# Altium footprint library QFN.PcbLib: 1 footprints
Each footprint in its own frame and in the unit in brackets; x right, y up, seen from the top. Pads: shape width x height; smd on the part's side, far side on the other; paste and mask are expansions set on the pad; w line width, h text height; cw(c..) or ccw(c..) is an arc to the next point about the centre after c.
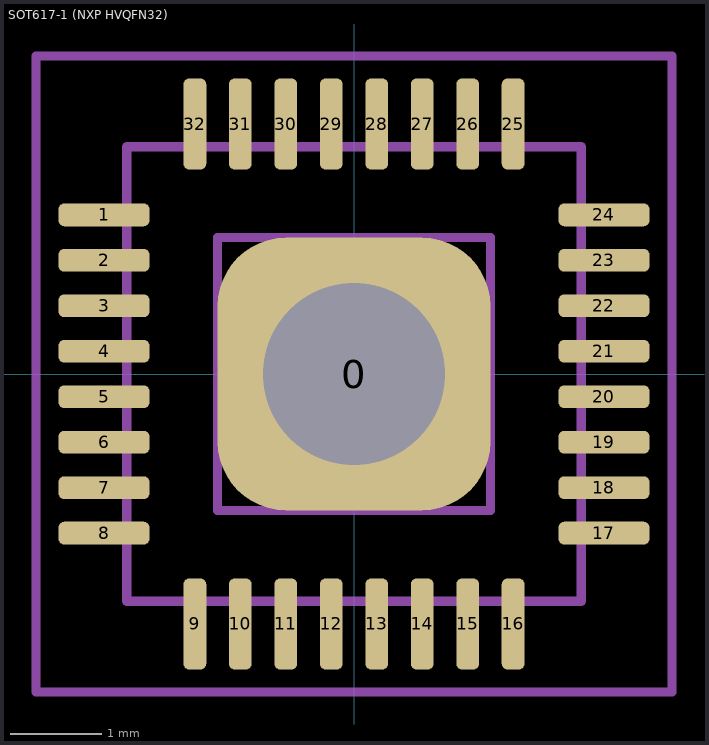
[diagram p0: the footprint, top view; thin cyan lines are the x and y axes]

## SOT617-1 (NXP HVQFN32) [mm] "plastic thermal enhanced very thin quad flat package; no leads;  32 terminals; body 5 x 5 x 0.85 mm"
pads (33):
  rrect50% 3x3 hole 2: 0(0,0)
  rrect50% 1x0.25 smd: 1(-2.75,1.75) 2(-2.75,1.25) 3(-2.75,0.75) 4(-2.75,0.25) 5(-2.75,-0.25) 6(-2.75,-0.75) 7(-2.75,-1.25) 8(-2.75,-1.75) 17(2.75,-1.75) 18(2.75,-1.25) 19(2.75,-0.75) 20(2.75,-0.25) 21(2.75,0.25) 22(2.75,0.75) 23(2.75,1.25) 24(2.75,1.75)
  rrect50% 0.25x1 smd: 9(-1.75,-2.75) 10(-1.25,-2.75) 11(-0.75,-2.75) 12(-0.25,-2.75) 13(0.25,-2.75) 14(0.75,-2.75) 15(1.25,-2.75) 16(1.75,-2.75) 25(1.75,2.75) 26(1.25,2.75) 27(0.75,2.75) 28(0.25,2.75) 29(-0.25,2.75) 30(-0.75,2.75) 31(-1.25,2.75) 32(-1.75,2.75)
Mechanical 13:
  lines w0.1: -2.5,-2.5 2.5,-2.5 2.5,2.5 -2.5,2.5 -2.5,-2.5
Mechanical 14:
  circle w0.1: c0,0 r1
  lines w0.1: -1.5,-1.5 1.5,-1.5 1.5,1.5 -1.5,1.5 -1.5,-1.5
Mechanical 15:
  lines w0.1: -0.5,0 0.5,0 ; 0,-0.5 0,0.5 ; -3.5,-3.5 3.5,-3.5 3.5,3.5 -3.5,3.5 -3.5,-3.5
3D body: height 0.1, standoff 0, extent -1.5,-1.5 1.5,1.5
3D body: height 0.2, standoff 0, extent 1.6,2.5 1.9,2.6
3D body: height 0.2, standoff 0, extent 1.1,2.5 1.4,2.6
3D body: height 0.2, standoff 0, extent 0.6,2.5 0.9,2.6
3D body: height 0.2, standoff 0, extent 0.1,2.5 0.4,2.6
3D body: height 0.2, standoff 0, extent -0.4,2.5 -0.1,2.6
3D body: height 0.2, standoff 0, extent -0.9,2.5 -0.6,2.6
3D body: height 0.2, standoff 0, extent -1.4,2.5 -1.1,2.6
3D body: height 0.2, standoff 0, extent -1.9,2.5 -1.6,2.6
3D body: height 0.2, standoff 0, extent 2.5,-1.9 2.6,-1.6
3D body: height 0.2, standoff 0, extent 2.5,-1.4 2.6,-1.1
3D body: height 0.2, standoff 0, extent 2.5,-0.9 2.6,-0.6
3D body: height 0.2, standoff 0, extent 2.5,-0.4 2.6,-0.1
3D body: height 0.2, standoff 0, extent 2.5,0.1 2.6,0.4
3D body: height 0.2, standoff 0, extent 2.5,0.6 2.6,0.9
3D body: height 0.2, standoff 0, extent 2.5,1.1 2.6,1.4
3D body: height 0.2, standoff 0, extent 2.5,1.6 2.6,1.9
3D body: height 0.2, standoff 0, extent -1.9,-2.6 -1.6,-2.5
3D body: height 0.2, standoff 0, extent -1.4,-2.6 -1.1,-2.5
3D body: height 0.2, standoff 0, extent -0.9,-2.6 -0.6,-2.5
3D body: height 0.2, standoff 0, extent -0.4,-2.6 -0.1,-2.5
3D body: height 0.2, standoff 0, extent 0.1,-2.6 0.4,-2.5
3D body: height 0.2, standoff 0, extent 0.6,-2.6 0.9,-2.5
3D body: height 0.2, standoff 0, extent 1.1,-2.6 1.4,-2.5
3D body: height 0.2, standoff 0, extent 1.6,-2.6 1.9,-2.5
3D body: height 0.2, standoff 0, extent -2.6,-1.9 -2.5,-1.6
3D body: height 0.2, standoff 0, extent -2.6,-1.4 -2.5,-1.1
3D body: height 0.2, standoff 0, extent -2.6,-0.9 -2.5,-0.6
3D body: height 0.2, standoff 0, extent -2.6,-0.4 -2.5,-0.1
3D body: height 0.2, standoff 0, extent -2.6,0.1 -2.5,0.4
3D body: height 0.2, standoff 0, extent -2.6,0.6 -2.5,0.9
3D body: height 0.2, standoff 0, extent -2.6,1.1 -2.5,1.4
3D body: height 0.2, standoff 0, extent -2.6,1.6 -2.5,1.9
3D body: height 1, standoff 0.1, extent -2.5,-2.5 2.5,2.5
3D body: height 1, standoff 0, extent -2.5,0 0,2.5
3D body: height 1.1, standoff 1, extent -2,0.5 -0.5,2